# Altium schematic symbol library Power_Components.SchLib: 28 symbols
Pins are listed as number, name and electrical type; pins without a type are passive.

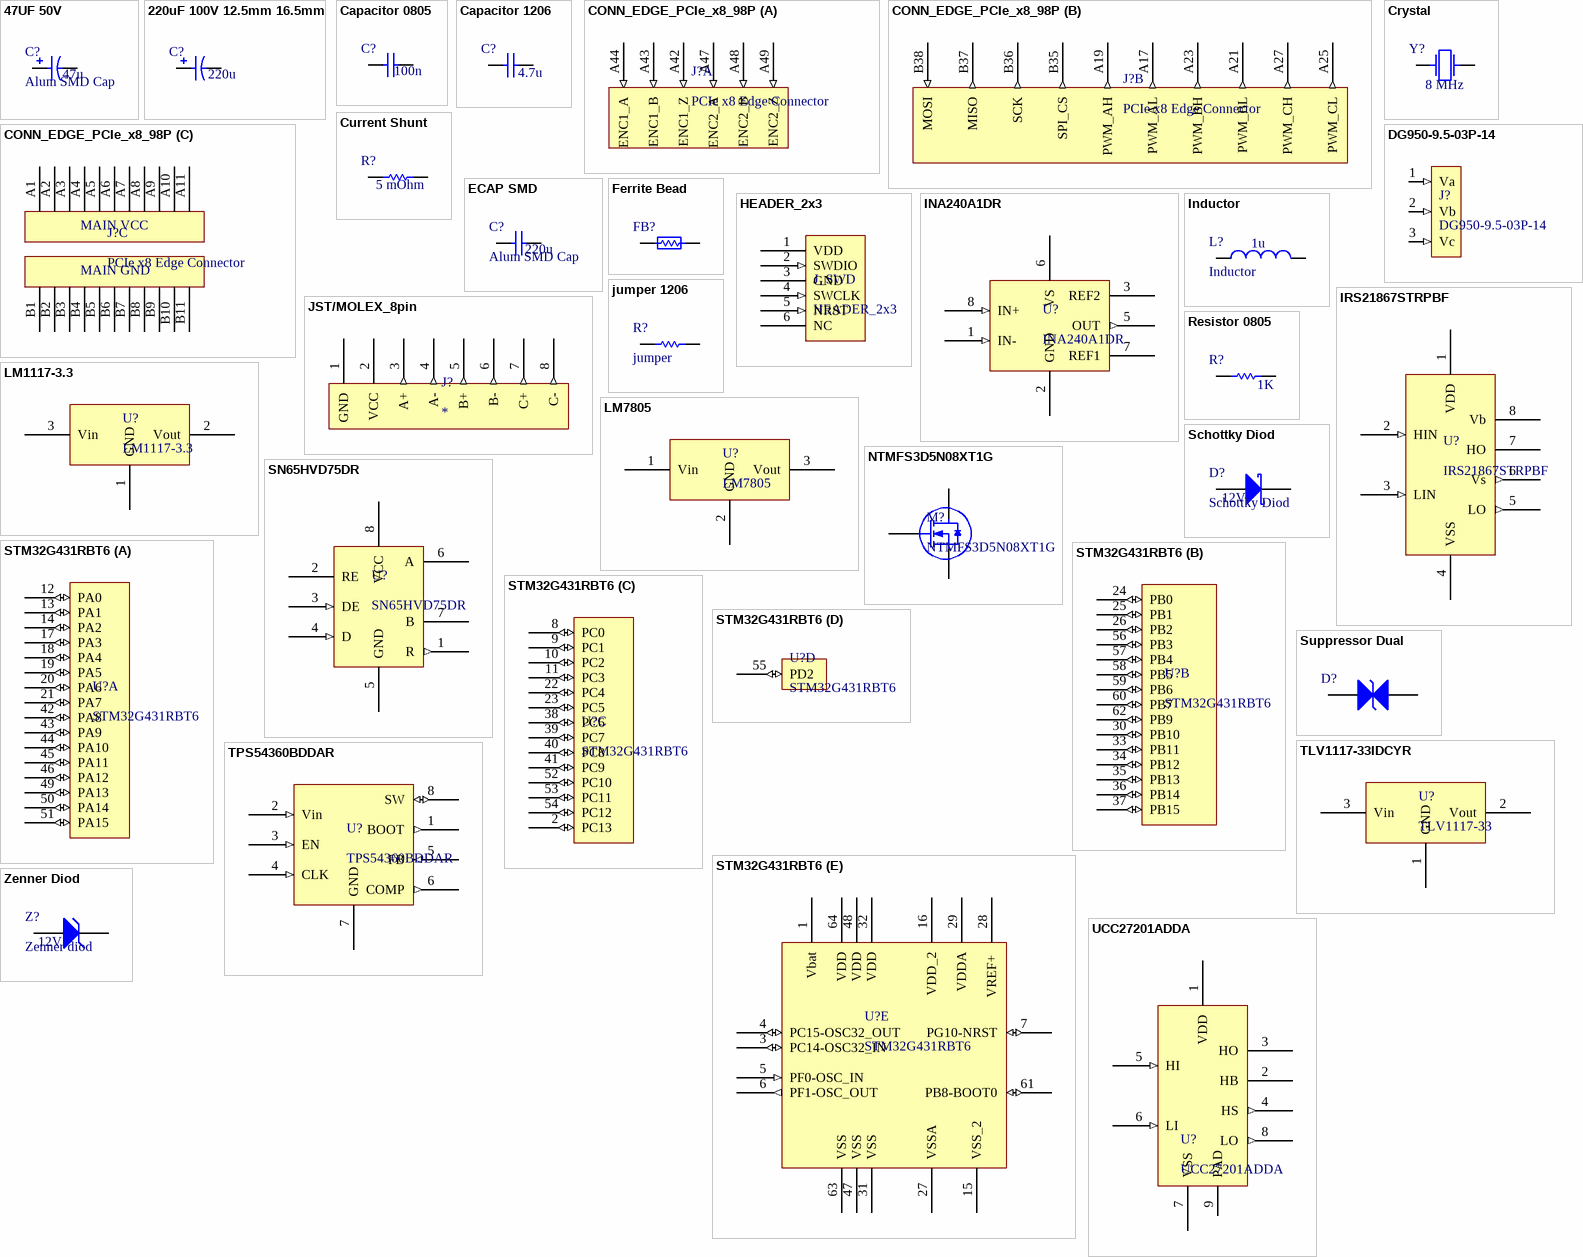
[diagram p0: symbols 47UF 50V to Zenner Diod]

## 47UF 50V
designator C?, comment Alum SMD Cap  value 47u
D6.3xL7.7mm Aluminum Electrolytic Capacitors - SMD-55℃~+105℃ 2800hrs@105℃ 47uF 50V 6.3mm 66mA@120Hz 7.7mm ±20% SMD, ROHS
footprint ECAP D6.3xL7.7mm
pins: 1, 2

## 220uF 100V 12.5mm 16.5mm
designator C?, comment value 220u  (hidden comment: Alum SMD Cap)
100V 12.5mm 16.5mm 220uF ±20% SMD,D12.5xL16.5mm Aluminum Electrolytic Capacitors - SMD ROHS
footprint ECAP 12.5x16.5
pins: 1, 2

## Capacitor 0805
designator C?, comment value 100n  (hidden comment: Capacitor)
0.1u-1u
footprint 0805
pins: 1, 2

## Capacitor 1206
designator C?, comment value 4.7u  (hidden comment: Capacitor)
2.2u-10u
footprint 1206
pins: 1, 2

## CONN_EDGE_PCIe_x8_98P
designator J?, comment PCIe x8 Edge Connector
footprint MALE_PCI_x8
part A pins: A42 ENC1_Z (in), A43 ENC1_B (in), A44 ENC1_A (in), A47 ENC2_A (in), A48 ENC2_B (in), A49 ENC2_Z (in)
part B pins: A17 PWM_AL (out), A19 PWM_AH (out), A21 PWM_BL (out), A23 PWM_BH (out), A25 PWM_CL (out), A27 PWM_CH (out), B35 SPI_CS (out), B36 SCK (out), B37 MISO (out), B38 MOSI (in)
part C pins: A1 (power), A2 (power), A3 (power), A4 (power), A5 (power), A6 (power), A7 (power), A8 (power), A9 (power), A10 (power), A11 (power), B1 A19 (power), B2 A20 (power), B3 A21 (power), B4 A22 (power), B5 A23 (power), B6 A24 (power), B7 A25 (power), B8 A26 (power), B9 A27 (power), B10 A28 (power), B11 A29 (power)
part C text: MAIN VCC; MAIN GND

## Crystal
designator Y?, comment value 8 MHz  (hidden comment: OSC)
footprint hc-49sm
pins: 1, 2

## Current Shunt
designator R?  value 5 mOhm  (hidden comment: Current Shunt)
footprint 2512 (Shunt)
pins: 1, 2

## DG950-9.5-03P-14
designator J?
3 pin power
footprint DG950-9.5-03P-14
pins: 1 Va (in), 2 Vb (in), 3 Vc (in)

## ECAP SMD
designator C?, comment Alum SMD Cap  value 220u
50V 220u ECAP
footprint ECAP SMD 8x10.5 (8x10.5)
footprint ECAP 18x21 (470uF)
footprint ECAP 12.5x16.5
pins: 1, 2

## Ferrite Bead
designator FB?  (value not drawn)
600 ohm 100Mhz
footprint 0805
pins: 1, 2

## HEADER_2x3
designator J_SWD
for stm and st-link
footprint HEADER_2x3
pins: 1 VDD, 2 SWDIO (in), 3 GND, 4 SWCLK (in), 5 NRST (in), 6 NC

## INA240A1DR
designator U?
Amplifier. A1=20 V/V and +-6.75 Mohm for shunt
footprint SOIC-8
pins: 1 IN- (in), 2 GND, 3 REF2, 5 OUT (out), 6 VS, 7 REF1, 8 IN+ (in)

## Inductor
designator L?  value 1u
footprint SMD Ind CDRH105R (22u 1A)
footprint SMD IND 104CDMCCDS-220MC (22u 5.5A)
footprint MWSA0603S-4R7MT (SMD,7x6.6mm)
pins: 1, 2

## IRS21867STRPBF
designator U?
-40℃~+150℃@(Tj) 120uA 170ns 170ns 18ns 2 22ns 4A 4A 5V~20V IGBT Low and high Side Under Voltage Protection SOIC-8 Gate Drivers ROHS
footprint SOIC-8
pins: 1 VDD (power), 2 HIN (in), 3 LIN (in), 4 VSS, 5 LO (out), 6 Vs (out), 7 HO, 8 Vb

## JST/MOLEX_8pin
designator J?
8 pin JST
footprint B8B-EH-A-(LF)(SN) (M-JST 8 pin)
pins: 1 GND, 2 VCC, 3 A+ (out), 4 A- (out), 5 B+ (out), 6 B- (out), 7 C+ (out), 8 C- (out)

## jumper 1206
designator R?, comment jumper
footprint 1206
pins: 1, 2

## LM1117-3.3
designator U?
LDO 3.3V
footprint SOT-223
pins: 1 GND, 2 Vout, 3 Vin, 4 Vout

## LM7805
designator U?
Output Current up to 1A
footprint TO-263-3 (DPAK 3 leg and pad)
pins: 1 Vin, 2 GND, 3 Vout, 4 GND

## NTMFS3D5N08XT1G
designator M?
MOSFET
footprint SuperSO8
pins: 1 S, 2 S, 3 S, 4 G, 5 D, 6 D, 7 D, 8 D

## Resistor 0805
designator R?, comment value 1K  (hidden comment: Resistor)
footprint 0805
pins: 1, 2

## Schottky Diod
designator D?  value 12V
footprint SMB
pins: 1 A, 2 K

## SN65HVD75DR
designator U?
20 Mbps RS-422/485
footprint SOIC-8
pins: 1 R (out), 2 RE, 3 DE (in), 4 D (in), 5 GND, 6 A, 7 B, 8 VCC

## STM32G431RBT6
designator U?
STM32 with ADC
footprint LQFP-64_10x10_P0.5 (TSQFP, 64-Leads, Body 10,00x10,00mm, Pitch 0,50mm, IPC Medium Density)
part A pins: 12 PA0  (io), 13 PA1 (io), 14 PA2 (io), 17 PA3 (io), 18 PA4 (io), 19 PA5 (io) "TT_a", 20 PA6 (io) "TT_a", 21 PA7 (io) "TT_a", 42 PA8 (io) "FT_f", 43 PA9 (io) "FT_fd", 44 PA10 (io) "FT_da", 45 PA11 (io) "FT_u", 46 PA12 (io) "FT_u", 49 PA13 (io) "FT_f", 50 PA14 (io) "FT_f", 51 PA15 (io) "FT_f"
part B pins: 24 PB0 (io) "TT_a", 25 PB1 (io) "TT_a", 26 PB2 (io) "TT_a", 30 PB10 (io) "TT_a", 33 PB11 (io) "FT_a", 34 PB12 (io) "FT_a", 35 PB13 (io) "TT_a", 36 PB14 (io) "TT_a", 37 PB15 (io) "FT_a", 56 PB3 (io) "FT", 57 PB4 (io) "FT_c", 58 PB5 (io) "FT_f", 59 PB6 (io) "FT_c", 60 PB7 (io) "FT_f", 62 PB9 (io) "FT_f"
part C pins: 2 PC13  (io), 8 PC0 (io), 9 PC1 (io), 10 PC2 (io), 11 PC3 (io), 22 PC4 (io) "FT_fa", 23 PC5 (io) "TT_a", 38 PC6 (io) "FT", 39 PC7 (io) "FT", 40 PC8 (io) "FT_f", 41 PC9 (io) "FT_f", 52 PC10 (io) "FT", 53 PC11 (io) "FT_f", 54 PC12 (io) "FT"
part D pins: 55 PD2 (io) "FT"
part E pins: 1 Vbat, 3 PC14-OSC32_IN (io), 4 PC15-OSC32_OUT (io), 5 PF0-OSC_IN (in), 6 PF1-OSC_OUT (out), 7 PG10-NRST (io), 15 VSS_2, 16 VDD_2, 27 VSSA, 28 VREF+ , 29 VDDA, 31 VSS, 32 VDD, 47 VSS, 48 VDD, 61 PB8-BOOT0 (io) "FT_f", 63 VSS, 64 VDD

## Suppressor Dual
designator D?, comment Supressor Dual  (value not drawn)
Suppressor Dual
footprint SMB
pins: 1, 2

## TLV1117-33IDCYR
designator U?, comment TLV1117-33
LDO 3.3V
footprint SOT-223
pins: 1 GND, 2 Vout, 3 Vin, 4 Vout

## TPS54360BDDAR
designator U?
Step down DC/DC
footprint HSOIC-8-DDA (HSIOC8 with thermal pad)
pins: 1 BOOT (out), 2 Vin (in), 3 EN (in), 4 CLK (in), 5 FB (in), 6 COMP (out), 7 GND, 8 SW (io), 9 GND

## UCC27201ADDA
designator U?
3A, 20V Half-Bridge Gate Driver
footprint SOIC-8_PowerPAD_DDA
pins: 1 VDD (power), 2 HB, 3 HO, 4 HS (out), 5 HI (in), 6 LI (in), 7 VSS, 8 LO (out), 9 PAD

## Zenner Diod
designator Z?, comment Zenner diod  value 12V
footprint SOT95P245X110-3N (SOT23, 3-Leads, Body 2,90x2,45mm, Pitch 0,95mm, IPC Medium Density)
pins: 1 A, 3 K